# Altium integrated library N-Channel FET.IntLib: 448 symbols (part 3 of 8)
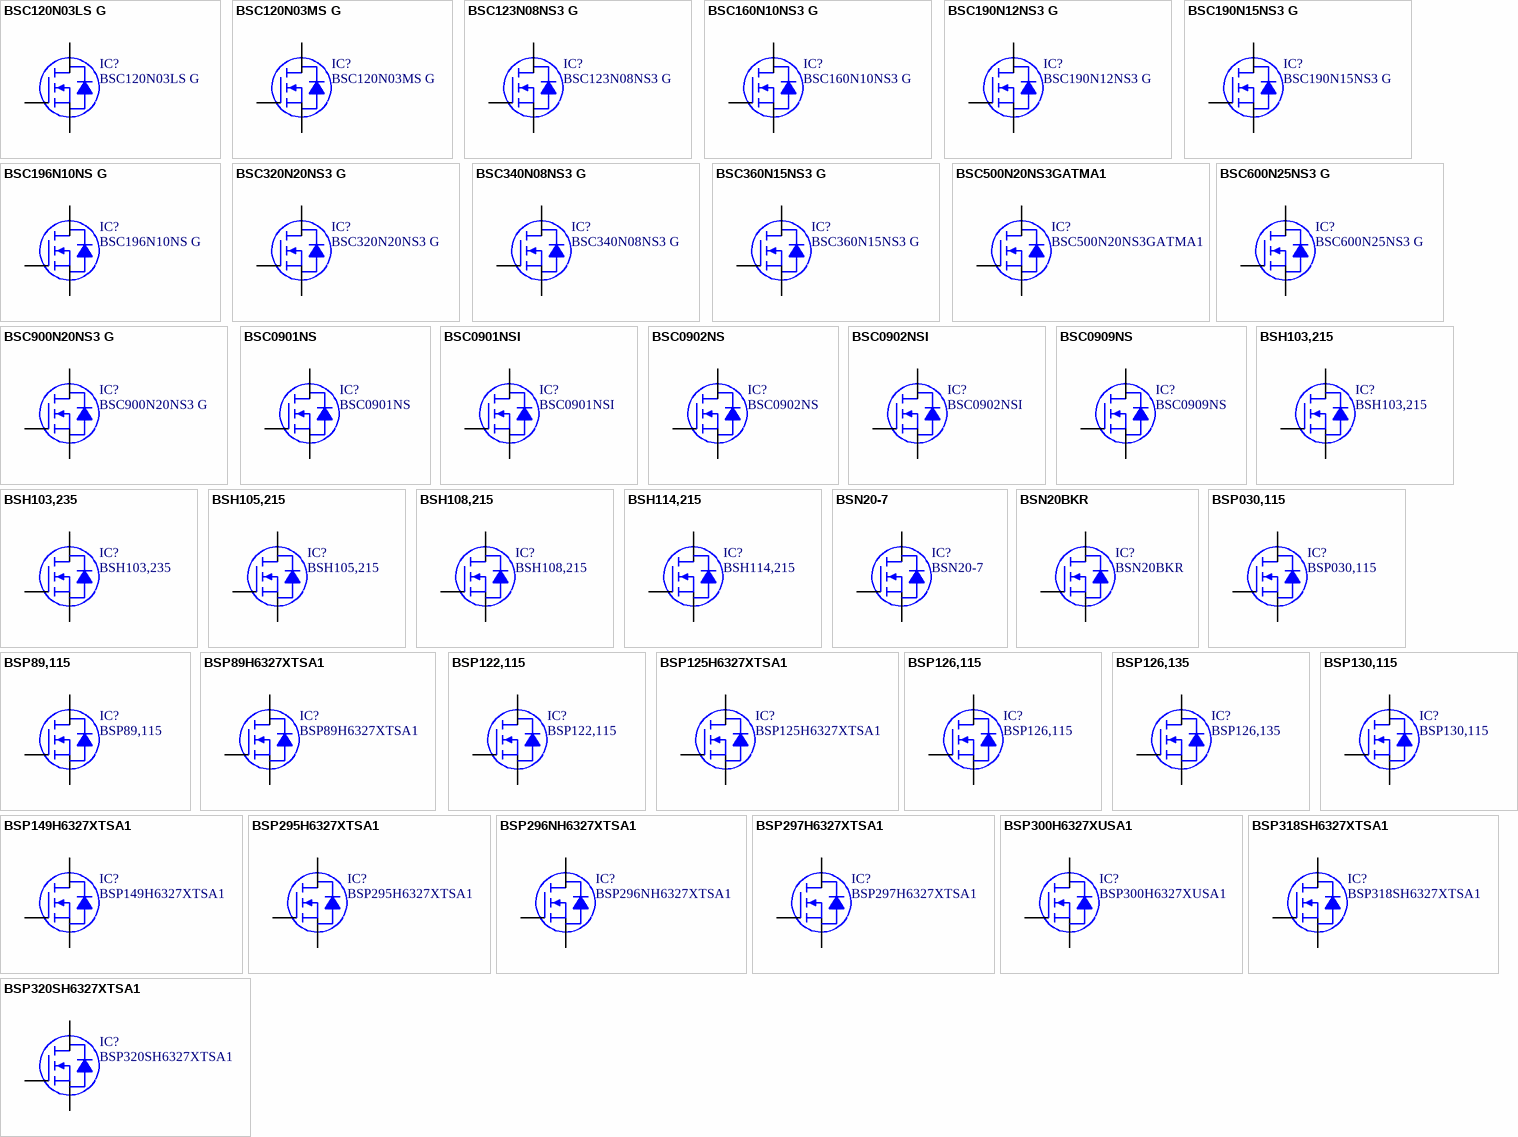
[diagram p13: symbols BSC120N03LS G to BSP320SH6327XTSA1]

## BSN20BKR
designator IC?
MOSFET N-CH 60V 0.265A SOT-23; Manufacturer: NXP USA Inc.; Rds On (Max) at Id, Vgs: 2.8 Ohm @ 200mA, 10V; Vgs(th) (Max) at Id: 20V; Gate Charge (Qg): 0.49nC @ 4.5V; Input Capacitance (Ciss) at Vds: 20.2pF @ 30V; Current Continuous Drain: 265mA (Ta); Part Number: BSN20BKR; PartId: 29598; Supplier 1: Digi-Key; Supplier Part Number 1: 568-12638-1-ND; ComponentLink1Description: Datasheet; ComponentLink1URL: http://www.nxp.com/documents/data_sheet/BSN20BK.pdf; ComponentLink2Description: Digi-Key Listing; ComponentLink2URL: https://www.digikey.com/product-detail/en/nxp-usa-inc/BSN20BKR/568-12638-1-ND/5423815; Price: 0.57; Type: N-Channel; Device Package: TO-236-3, SC-59, SOT-23-3; Drain to Source Voltage (Vdss): 60V
footprint NXP SOT-23-3 TO-236AB
pins: 1 G, 2 D, 3 S

## BSP030,115
designator IC?
MOSFET N-CH 30V 10A SOT223; Manufacturer: NXP Semiconductors; Rds On (Max) at Id, Vgs: 30 mOhm @ 5A, 10V; Vgs(th) (Max) at Id: 2.8V @ 1mA; Gate Charge (Qg): 40nC @ 10V; Input Capacitance (Ciss) at Vds: 770pF @ 24V; Power - Max: 8.3W; Current Continuous Drain: 10A (Tc); Part Number: BSP030,115; PartId: 8101; Supplier 1: Digi-Key; Supplier Part Number 1: 568-6218-2-ND; ComponentLink1Description: Datasheet; ComponentLink1URL: http://www.nxp.com/documents/data_sheet/BSP030.pdf; ComponentLink2Description: Digi-Key Listing; ComponentLink2URL: http://www.digikey.com/product-detail/en/BSP030,115/568-6218-2-ND/1155066; Price: 0.4687; Type: MOSFET N-Channel, Metal Oxide; Device Package: TO-261-4, TO-261AA; Drain to Source Voltage (Vdss): 30V; Features: Logic Level Gate
footprint NXP SOT-223
pins: 1 G, 2 D, 3 S, 4 D

## BSP89,115
designator IC?
MOSFET N-CH 240V 375MA SOT223; Manufacturer: NXP USA Inc.; Rds On (Max) at Id, Vgs: 5 Ohm @ 340mA, 10V; Vgs(th) (Max) at Id: 20V; Input Capacitance (Ciss) at Vds: 120pF @ 25V; Current Continuous Drain: 375mA (Ta); Part Number: BSP89,115; PartId: 29635; Supplier 1: Digi-Key; Supplier Part Number 1: 568-1769-1-ND; ComponentLink1Description: Datasheet; ComponentLink1URL: http://www.nxp.com/documents/data_sheet/BSP89.pdf; ComponentLink2Description: Digi-Key Listing; ComponentLink2URL: https://www.digikey.com/product-detail/en/nxp-usa-inc/BSP89,115/568-1769-1-ND/790082; Price: 0.91; Type: N-Channel; Device Package: TO-261-4, TO-261AA; Drain to Source Voltage (Vdss): 240V
footprint NXP SOT-223
pins: 1 G, 2 D, 3 S, 4 D

## BSP89H6327XTSA1
designator IC?
MOSFET N-CH 4SOT223; Manufacturer: Infineon Technologies; Rds On (Max) at Id, Vgs: 6 Ohm @ 350mA, 10V; Vgs(th) (Max) at Id: 20V; Gate Charge (Qg): 6.4nC @ 10V; Input Capacitance (Ciss) at Vds: 140pF @ 25V; Drain to Source Voltage (Vdss): 240V; Current Continuous Drain: 350mA (Ta); Part Number: BSP89H6327XTSA1; PartId: 29685; Supplier 1: Digi-Key; Supplier Part Number 1: BSP89H6327XTSA1CT-ND; ComponentLink1Description: Datasheet; ComponentLink1URL: http://www.infineon.com/dgdl/Infineon-BSP89-DS-v02_02-en.pdf?fileId=db3a30433b47825b013b4b8a07f90d55; ComponentLink2Description: Digi-Key Listing; ComponentLink2URL: https://www.digikey.com/product-detail/en/infineon-technologies/BSP89H6327XTSA1/BSP89H6327XTSA1CT-ND/5980354; Price: 0.67; Type: N-Channel; Device Package: TO-261-4, TO-261AA
footprint INFINEON SOT-223
pins: 1 G, 2 D, 3 S, 4 D

## BSP122,115
designator IC?
MOSFET N-CH 200V 0.55A SOT223; Manufacturer: NXP USA Inc.; Rds On (Max) at Id, Vgs: 2.5 Ohm @ 750mA, 10V; Vgs(th) (Max) at Id: 20V; Input Capacitance (Ciss) at Vds: 100pF @ 25V; Current Continuous Drain: 550mA (Ta); Part Number: BSP122,115; PartId: 29642; Supplier 1: Digi-Key; Supplier Part Number 1: 568-6849-1-ND; ComponentLink1Description: Datasheet; ComponentLink1URL: http://www.nxp.com/documents/data_sheet/BSP122.pdf; ComponentLink2Description: Digi-Key Listing; ComponentLink2URL: https://www.digikey.com/product-detail/en/nxp-usa-inc/BSP122,115/568-6849-1-ND/2676889; Price: 1.31; Type: N-Channel; Device Package: TO-261-4, TO-261AA; Drain to Source Voltage (Vdss): 200V
footprint NXP SOT-223
pins: 1 G, 2 D, 3 S, 4 D

## BSP125H6327XTSA1
designator IC?
MOSFET N-CH 600V 120MA SOT-223; Manufacturer: Infineon Technologies; Rds On (Max) at Id, Vgs: 45 Ohm @ 120mA, 10V; Vgs(th) (Max) at Id: 20V; Gate Charge (Qg): 6.6nC @ 10V; Input Capacitance (Ciss) at Vds: 150pF @ 25V; Current Continuous Drain: 120mA (Ta); Part Number: BSP125H6327XTSA1; PartId: 29679; Supplier 1: Digi-Key; Supplier Part Number 1: BSP125H6327XTSA1CT-ND; ComponentLink1Description: Datasheet; ComponentLink1URL: http://www.infineon.com/dgdl/Infineon-BSP125-DS-v02_02-en.pdf?fileId=db3a30433b47825b013b50cae9702806; ComponentLink2Description: Digi-Key Listing; ComponentLink2URL: https://www.digikey.com/product-detail/en/infineon-technologies/BSP125H6327XTSA1/BSP125H6327XTSA1CT-ND/5409980; Price: 0.89; Type: N-Channel; Device Package: TO-261-4, TO-261AA; Drain to Source Voltage (Vdss): 600V
footprint INFINEON SOT-223
pins: 1 G, 2 D, 3 S, 4 D

## BSP126,115
designator IC?
MOSFET N-CH 250V 375MA SOT223; Manufacturer: NXP USA Inc.; Rds On (Max) at Id, Vgs: 5 Ohm @ 300mA, 10V; Vgs(th) (Max) at Id: 20V; Input Capacitance (Ciss) at Vds: 120pF @ 25V; Current Continuous Drain: 375mA (Ta); Part Number: BSP126,115; PartId: 29638; Supplier 1: Digi-Key; Supplier Part Number 1: 568-6219-1-ND; ComponentLink1Description: Datasheet; ComponentLink1URL: http://www.nxp.com/documents/data_sheet/BSP126.pdf; ComponentLink2Description: Digi-Key Listing; ComponentLink2URL: https://www.digikey.com/product-detail/en/nxp-usa-inc/BSP126,115/568-6219-1-ND/2531506; Price: 1.31; Type: N-Channel; Device Package: TO-261-4, TO-261AA; Drain to Source Voltage (Vdss): 250V
footprint NXP SOT-223
pins: 1 G, 2 D, 3 S, 4 D

## BSP126,135
designator IC?
MOSFET N-CH 250V 375MA SOT223; Manufacturer: NXP USA Inc.; Rds On (Max) at Id, Vgs: 5 Ohm @ 300mA, 10V; Vgs(th) (Max) at Id: 20V; Input Capacitance (Ciss) at Vds: 120pF @ 25V; Current Continuous Drain: 375mA (Ta); Part Number: BSP126,135; PartId: 29639; Supplier 1: Digi-Key; Supplier Part Number 1: 568-6957-1-ND; ComponentLink1Description: Datasheet; ComponentLink1URL: http://www.nxp.com/documents/data_sheet/BSP126.pdf; ComponentLink2Description: Digi-Key Listing; ComponentLink2URL: https://www.digikey.com/product-detail/en/nxp-usa-inc/BSP126,135/568-6957-1-ND/2697757; Price: 1.31; Type: N-Channel; Device Package: TO-261-4, TO-261AA; Drain to Source Voltage (Vdss): 250V
footprint NXP SOT-223
pins: 1 G, 2 D, 3 S, 4 D

## BSP130,115
designator IC?
MOSFET N-CH 300V 350MA SC73; Manufacturer: NXP USA Inc.; Rds On (Max) at Id, Vgs: 6 Ohm @ 250mA, 10V; Vgs(th) (Max) at Id: 20V; Input Capacitance (Ciss) at Vds: 120pF @ 25V; Current Continuous Drain: 350mA (Ta); Part Number: BSP130,115; PartId: 29637; Supplier 1: Digi-Key; Supplier Part Number 1: 568-6220-1-ND; ComponentLink1Description: Datasheet; ComponentLink1URL: http://www.nxp.com/documents/data_sheet/BSP130.pdf; ComponentLink2Description: Digi-Key Listing; ComponentLink2URL: https://www.digikey.com/product-detail/en/nxp-usa-inc/BSP130,115/568-6220-1-ND/2531507; Price: 1.41; Type: N-Channel; Device Package: TO-261-4, TO-261AA; Drain to Source Voltage (Vdss): 300V
footprint NXP SOT-223
pins: 1 G, 2 D, 3 S, 4 D

## BSP149H6327XTSA1
designator IC?
MOSFET N-CH 200V 660MA SOT-223; Manufacturer: Infineon Technologies; Rds On (Max) at Id, Vgs: 1.8 Ohm @ 660mA, 10V; Vgs(th) (Max) at Id: 20V; Gate Charge (Qg): 14nC @ 5V; Input Capacitance (Ciss) at Vds: 430pF @ 25V; Current Continuous Drain: 660mA (Ta); Part Number: BSP149H6327XTSA1; PartId: 29675; Supplier 1: Digi-Key; Supplier Part Number 1: BSP149H6327XTSA1CT-ND; ComponentLink1Description: Datasheet; ComponentLink1URL: http://www.infineon.com/dgdl/Infineon-BSP149-DS-v02_01-en.pdf?fileId=db3a30433c1a8752013c1fcbb815397c; ComponentLink2Description: Digi-Key Listing; ComponentLink2URL: https://www.digikey.com/product-detail/en/infineon-technologies/BSP149H6327XTSA1/BSP149H6327XTSA1CT-ND/5409983; Price: 1.22; Type: N-Channel; Device Package: TO-261-4, TO-261AA; Drain to Source Voltage (Vdss): 200V; Features: Depletion Mode
footprint INFINEON SOT-223
pins: 1 G, 2 D, 3 S, 4 D

## BSP295H6327XTSA1
designator IC?
MOSFET N-CH 60V 1.8A SOT223; Manufacturer: Infineon Technologies; Rds On (Max) at Id, Vgs: 300 mOhm @ 1.8A, 10V; Vgs(th) (Max) at Id: 20V; Gate Charge (Qg): 17nC @ 10V; Input Capacitance (Ciss) at Vds: 368pF @ 25V; Current Continuous Drain: 1.8A (Ta); Part Number: BSP295H6327XTSA1; PartId: 29678; Supplier 1: Digi-Key; Supplier Part Number 1: BSP295H6327XTSA1CT-ND; ComponentLink1Description: Datasheet; ComponentLink1URL: http://www.infineon.com/dgdl/Infineon-BSP295-DS-v02_03-en.pdf?fileId=db3a30433b47825b013b5fc5eed1573f; ComponentLink2Description: Digi-Key Listing; ComponentLink2URL: https://www.digikey.com/product-detail/en/infineon-technologies/BSP295H6327XTSA1/BSP295H6327XTSA1CT-ND/5409987; Price: 0.88; Type: N-Channel; Device Package: TO-261-4, TO-261AA; Drain to Source Voltage (Vdss): 60V
footprint INFINEON SOT-223
pins: 1 G, 2 D, 3 S, 4 D

## BSP296NH6327XTSA1
designator IC?
MOSFET N-CH 100V 1.2A SOT-223; Manufacturer: Infineon Technologies; Rds On (Max) at Id, Vgs: 600 mOhm @ 1.2A, 10V; Vgs(th) (Max) at Id: 20V; Gate Charge (Qg): 6.7nC @ 10V; Input Capacitance (Ciss) at Vds: 152.7pF @ 25V; Current Continuous Drain: 1.2A (Ta); Part Number: BSP296NH6327XTSA1; PartId: 29680; Supplier 1: Digi-Key; Supplier Part Number 1: BSP296NH6327XTSA1CT-ND; ComponentLink1Description: Datasheet; ComponentLink1URL: http://www.infineon.com/dgdl/BSP296N_rev2+0.pdf?folderId=db3a3043156fd573011622e10b5c1f67&fileId=db3a30433dd58def013dd5af675d001f; ComponentLink2Description: Digi-Key Listing; ComponentLink2URL: https://www.digikey.com/product-detail/en/infineon-technologies/BSP296NH6327XTSA1/BSP296NH6327XTSA1CT-ND/5413605; Price: 0.84; Type: N-Channel; Device Package: TO-261-4, TO-261AA; Drain to Source Voltage (Vdss): 100V
footprint INFINEON SOT-223
pins: 1 G, 2 D, 3 S, 4 D

## BSP297H6327XTSA1
designator IC?
MOSFET N-CH 200V 660MA SOT-223; Manufacturer: Infineon Technologies; Rds On (Max) at Id, Vgs: 1.8 Ohm @ 660mA, 10V; Vgs(th) (Max) at Id: 20V; Gate Charge (Qg): 16.1nC @ 10V; Input Capacitance (Ciss) at Vds: 357pF @ 25V; Current Continuous Drain: 660mA (Ta); Part Number: BSP297H6327XTSA1; PartId: 29690; Supplier 1: Digi-Key; Supplier Part Number 1: BSP297H6327XTSA1CT-ND; ComponentLink1Description: Datasheet; ComponentLink1URL: http://www.infineon.com/dgdl/Infineon-BSP297-DS-v02_02-en.pdf?fileId=db3a30433b47825b013b51250a8528c2; ComponentLink2Description: Digi-Key Listing; ComponentLink2URL: https://www.digikey.com/product-detail/en/infineon-technologies/BSP297H6327XTSA1/BSP297H6327XTSA1CT-ND/5409988; Price: 0.88; Type: N-Channel; Device Package: TO-261-4, TO-261AA; Drain to Source Voltage (Vdss): 200V
footprint INFINEON SOT-223
pins: 1 G, 2 D, 3 S, 4 D

## BSP300H6327XUSA1
designator IC?
MOSFET N-CH 800V 190MA SOT-223; Manufacturer: Infineon Technologies; Rds On (Max) at Id, Vgs: 20 Ohm @ 190mA, 10V; Vgs(th) (Max) at Id: 20V; Input Capacitance (Ciss) at Vds: 230pF @ 25V; Current Continuous Drain: 190mA (Ta); Part Number: BSP300H6327XUSA1; PartId: 29693; Supplier 1: Digi-Key; Supplier Part Number 1: BSP300H6327XUSA1CT-ND; ComponentLink1Description: Datasheet; ComponentLink1URL: http://www.infineon.com/dgdl/Infineon-BSP300-DS-v02_02-en.pdf?fileId=db3a30433b47825b013b4c980bd0110d; ComponentLink2Description: Digi-Key Listing; ComponentLink2URL: https://www.digikey.com/product-detail/en/infineon-technologies/BSP300H6327XUSA1/BSP300H6327XUSA1CT-ND/5409990; Price: 1.23; Type: N-Channel; Device Package: TO-261-4, TO-261AA; Drain to Source Voltage (Vdss): 800V
footprint INFINEON SOT-223
pins: 1 G, 2 D, 3 S, 4 D

## BSP318SH6327XTSA1
designator IC?
MOSFET N-CH 60V 2.6A; Manufacturer: Infineon Technologies; Rds On (Max) at Id, Vgs: 90 mOhm @ 2.6A, 10V; Vgs(th) (Max) at Id: 20V; Gate Charge (Qg): 20nC @ 10V; Input Capacitance (Ciss) at Vds: 380pF @ 25V; Current Continuous Drain: 2.6A (Tj); Part Number: BSP318SH6327XTSA1; PartId: 29689; Supplier 1: Digi-Key; Supplier Part Number 1: BSP318SH6327XTSA1CT-ND; ComponentLink1Description: Datasheet; ComponentLink1URL: //media.digikey.com/pdf/Data%20Sheets/Infineon%20PDFs/BSP318S.pdf; ComponentLink2Description: Digi-Key Listing; ComponentLink2URL: https://www.digikey.com/product-detail/en/infineon-technologies/BSP318SH6327XTSA1/BSP318SH6327XTSA1CT-ND/6133624; Price: 0.84; Type: N-Channel; Device Package: TO-261-4, TO-261AA; Drain to Source Voltage (Vdss): 60V
footprint INFINEON SOT-223
pins: 1 G, 2 D, 3 S, 4 D

## BSP320SH6327XTSA1
designator IC?
MOSFET N-CH 60V 2.9A SOT223; Manufacturer: Infineon Technologies; Rds On (Max) at Id, Vgs: 120 mOhm @ 2.9A, 10V; Vgs(th) (Max) at Id: 20V; Gate Charge (Qg): 12nC @ 10V; Input Capacitance (Ciss) at Vds: 340pF @ 25V; Current Continuous Drain: 2.9A (Tj); Part Number: BSP320SH6327XTSA1; PartId: 29686; Supplier 1: Digi-Key; Supplier Part Number 1: BSP320SH6327XTSA1CT-ND; ComponentLink1Description: Datasheet; ComponentLink1URL: http://www.infineon.com/dgdl/Infineon-BSP320S-DS-v02_05-en.pdf?fileId=db3a30433b47825b013b515cf1f42949; ComponentLink2Description: Digi-Key Listing; ComponentLink2URL: https://www.digikey.com/product-detail/en/infineon-technologies/BSP320SH6327XTSA1/BSP320SH6327XTSA1CT-ND/6134221; Price: 0.78; Type: N-Channel; Device Package: TO-261-4, TO-261AA; Drain to Source Voltage (Vdss): 60V
footprint INFINEON SOT-223
pins: 1 G, 2 D, 3 S, 4 D

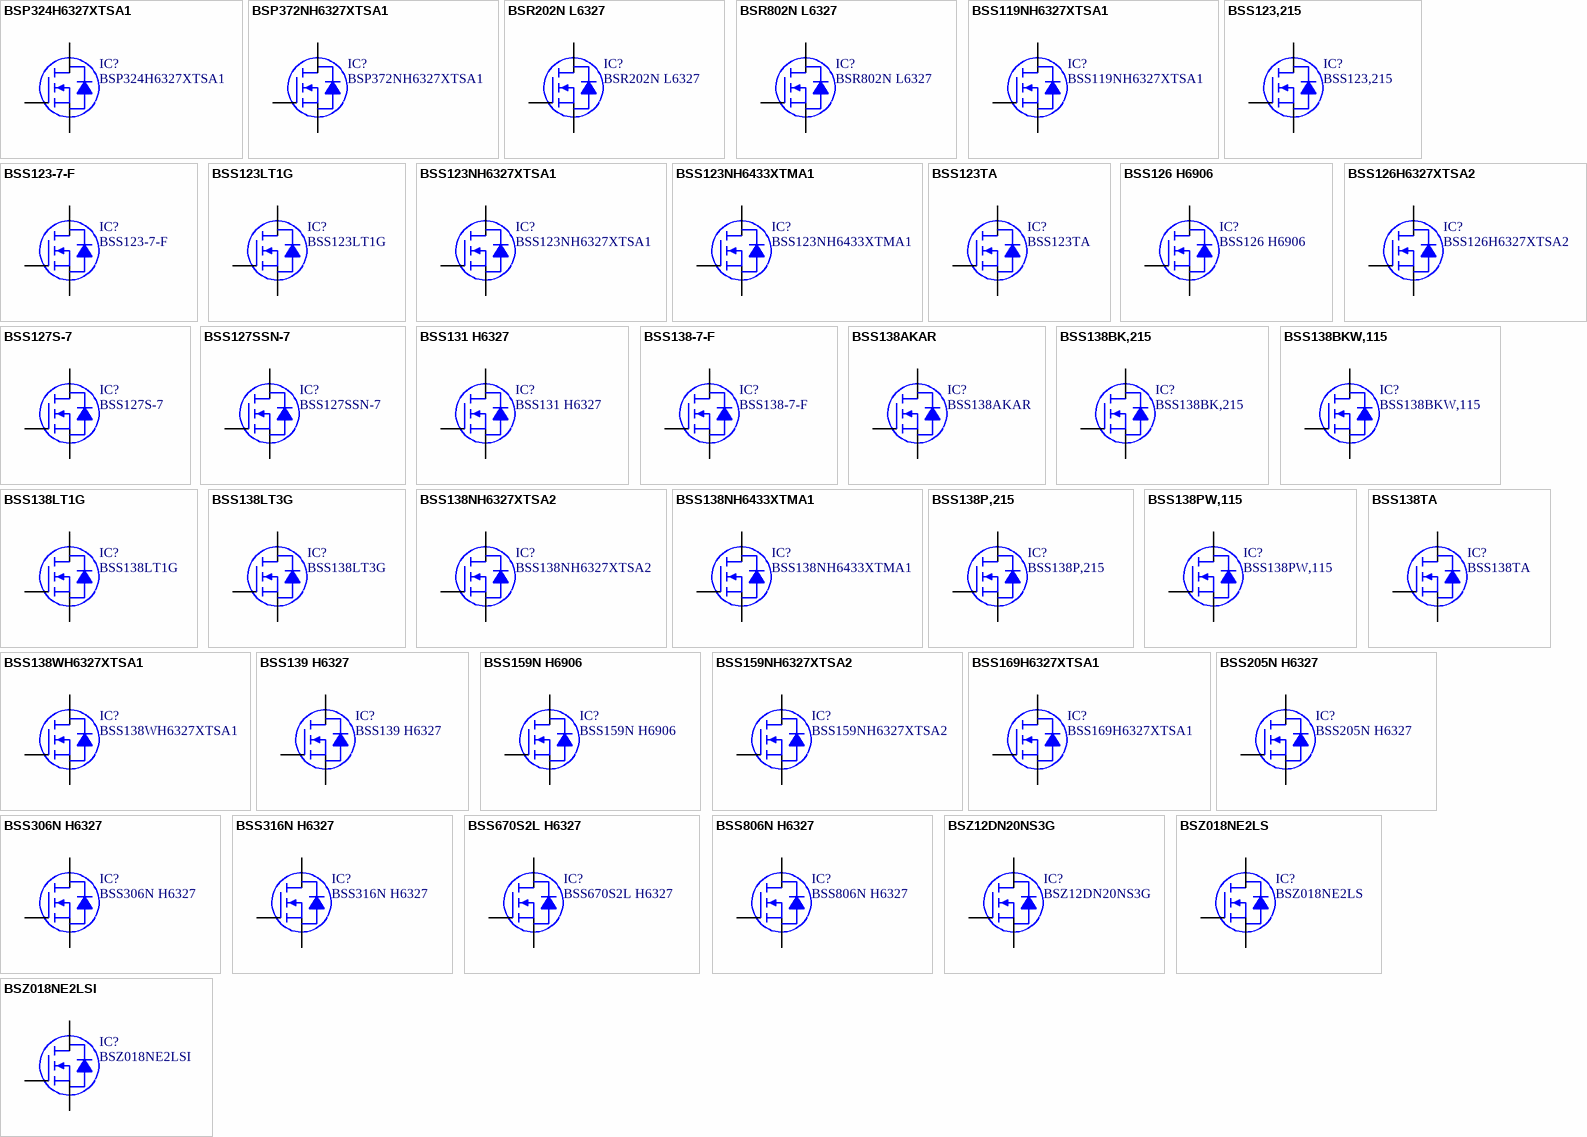
[diagram p3: symbols BSP324H6327XTSA1 to BSZ018NE2LSI]

## BSP324H6327XTSA1
designator IC?
MOSFET N-CH 400V 170MA SOT-223; Manufacturer: Infineon Technologies; Rds On (Max) at Id, Vgs: 25 Ohm @ 170mA, 10V; Vgs(th) (Max) at Id: 20V; Gate Charge (Qg): 5.9nC @ 10V; Input Capacitance (Ciss) at Vds: 154pF @ 25V; Current Continuous Drain: 170mA (Ta); Part Number: BSP324H6327XTSA1; PartId: 29691; Supplier 1: Digi-Key; Supplier Part Number 1: BSP324H6327XTSA1CT-ND; ComponentLink1Description: Datasheet; ComponentLink1URL: http://www.infineon.com/dgdl/Infineon-BSP324-DS-v02_02-en.pdf?fileId=db3a30433b47825b013b4c38c51e0fe9; ComponentLink2Description: Digi-Key Listing; ComponentLink2URL: https://www.digikey.com/product-detail/en/infineon-technologies/BSP324H6327XTSA1/BSP324H6327XTSA1CT-ND/5409995; Price: 0.89; Type: N-Channel; Device Package: TO-261-4, TO-261AA; Drain to Source Voltage (Vdss): 400V
footprint INFINEON SOT-223
pins: 1 G, 2 D, 3 S, 4 D

## BSP372NH6327XTSA1
designator IC?
MOSFET N-CH 100V 1.7A SOT-223; Manufacturer: Infineon Technologies; Rds On (Max) at Id, Vgs: 230 mOhm @ 1.8A, 10V; Vgs(th) (Max) at Id: 20V; Gate Charge (Qg): 14.3nC @ 10V; Input Capacitance (Ciss) at Vds: 329pF @ 25V; Current Continuous Drain: 1.8A (Ta); Part Number: BSP372NH6327XTSA1; PartId: 29692; Supplier 1: Digi-Key; Supplier Part Number 1: BSP372NH6327XTSA1CT-ND; ComponentLink1Description: Datasheet; ComponentLink1URL: http://www.infineon.com/dgdl/BSP372N_rev2+0.pdf?folderId=db3a3043156fd573011622e10b5c1f67&fileId=db3a30433dd58def013dd8e68ae413f6; ComponentLink2Description: Digi-Key Listing; ComponentLink2URL: https://www.digikey.com/product-detail/en/infineon-technologies/BSP372NH6327XTSA1/BSP372NH6327XTSA1CT-ND/5980351; Price: 0.95; Type: N-Channel; Device Package: TO-261-4, TO-261AA; Drain to Source Voltage (Vdss): 100V
footprint INFINEON SOT-223
pins: 1 G, 2 D, 3 S, 4 D

## BSR202N L6327
designator IC?
MOSFET N-CH 20V 3.8A SC-59; Manufacturer: Infineon Technologies; Rds On (Max) at Id, Vgs: 21 mOhm @ 3.8A, 4.5V; Vgs(th) (Max) at Id: 12V; Gate Charge (Qg): 8.8nC @ 4.5V; Input Capacitance (Ciss) at Vds: 1147pF @ 10V; Current Continuous Drain: 3.8A (Ta); Part Number: BSR202N L6327; PartId: 29487; Supplier 1: Digi-Key; Supplier Part Number 1: BSR202N L6327CT-ND; ComponentLink1Description: Datasheet; ComponentLink1URL: http://www.infineon.com/dgdl/BSR202N_Rev1.06.pdf?folderId=db3a3043156fd573011622e10b5c1f67&fileId=db3a3043156fd573011622e5576e1f72; ComponentLink2Description: Digi-Key Listing; ComponentLink2URL: https://www.digikey.com/product-detail/en/infineon-technologies/BSR202N-L6327/BSR202N-L6327CT-ND/2231062; Price: 0.7; Type: N-Channel; Device Package: TO-236-3, SC-59, SOT-23-3; Drain to Source Voltage (Vdss): 20V
footprint INFINEON SOT-23-3
pins: 1 G, 2 D, 3 S

## BSR802N L6327
designator IC?
MOSFET N-CH 20V 3.7A SC-59; Manufacturer: Infineon Technologies; Rds On (Max) at Id, Vgs: 23 mOhm @ 3.7A, 2.5V; Vgs(th) (Max) at Id: 8V; Gate Charge (Qg): 4.7nC @ 2.5V; Input Capacitance (Ciss) at Vds: 1447pF @ 10V; Current Continuous Drain: 3.7A (Ta); Part Number: BSR802N L6327; PartId: 29467; Supplier 1: Digi-Key; Supplier Part Number 1: BSR802N L6327INCT-ND; ComponentLink1Description: Datasheet; ComponentLink1URL: http://www.infineon.com/dgdl/BSR802N_Rev2.1.pdf?folderId=db3a3043156fd573011622e10b5c1f67&fileId=db3a30431b0626df011b129302297bc1; ComponentLink2Description: Digi-Key Listing; ComponentLink2URL: https://www.digikey.com/product-detail/en/infineon-technologies/BSR802N-L6327/BSR802N-L6327INCT-ND/2268934; Price: 0.72; Type: N-Channel; Device Package: TO-236-3, SC-59, SOT-23-3; Drain to Source Voltage (Vdss): 20V
footprint INFINEON SOT-23-3
pins: 1 G, 2 D, 3 S

## BSS119NH6327XTSA1
designator IC?
MOSFET N-CH 100V 0.19A SOT-23; Manufacturer: Infineon Technologies; Rds On (Max) at Id, Vgs: 6 Ohm @ 190mA, 10V; Vgs(th) (Max) at Id: 20V; Gate Charge (Qg): 0.6nC @ 10V; Input Capacitance (Ciss) at Vds: 20.9pF @ 25V; Current Continuous Drain: 190mA (Ta); Part Number: BSS119NH6327XTSA1; PartId: 29479; Supplier 1: Digi-Key; Supplier Part Number 1: BSS119NH6327XTSA1CT-ND; ComponentLink1Description: Datasheet; ComponentLink1URL: http://www.infineon.com/dgdl/Infineon-BSS119N-DS-v02_01-en.pdf?fileId=db3a304335f1f4b6013639b6532a164a; ComponentLink2Description: Digi-Key Listing; ComponentLink2URL: https://www.digikey.com/product-detail/en/infineon-technologies/BSS119NH6327XTSA1/BSS119NH6327XTSA1CT-ND/5409997; Price: 0.57; Type: N-Channel; Device Package: TO-236-3, SC-59, SOT-23-3; Drain to Source Voltage (Vdss): 100V
footprint INFINEON SOT-23-3
pins: 1 G, 2 D, 3 S

## BSS123,215
designator IC?
MOSFET N-CH 100V 150MA SOT-23; Manufacturer: NXP USA Inc.; Rds On (Max) at Id, Vgs: 6 Ohm @ 120mA, 10V; Vgs(th) (Max) at Id: 20V; Input Capacitance (Ciss) at Vds: 40pF @ 25V; Current Continuous Drain: 150mA (Ta); Part Number: BSS123,215; PartId: 29596; Supplier 1: Digi-Key; Supplier Part Number 1: 568-4873-1-ND; ComponentLink1Description: Datasheet; ComponentLink1URL: http://www.nxp.com/documents/data_sheet/BSS123.pdf; ComponentLink2Description: Digi-Key Listing; ComponentLink2URL: https://www.digikey.com/product-detail/en/nxp-usa-inc/BSS123,215/568-4873-1-ND/2122202; Price: 0.48; Type: N-Channel; Device Package: TO-236-3, SC-59, SOT-23-3; Drain to Source Voltage (Vdss): 100V
footprint NXP SOT-23-3 TO-236AB
pins: 1 G, 2 D, 3 S

## BSS123-7-F
designator IC?
MOSFET N-CH 100V 170MA SOT23-3; Manufacturer: Diodes Incorporated; Rds On (Max) at Id, Vgs: 6 Ohm @ 170mA, 10V; Vgs(th) (Max) at Id: 20V; Input Capacitance (Ciss) at Vds: 60pF @ 25V; Current Continuous Drain: 170mA (Ta); Part Number: BSS123-7-F; PartId: 29518; Supplier 1: Digi-Key; Supplier Part Number 1: BSS123-FDICT-ND; ComponentLink1Description: Datasheet; ComponentLink1URL: http://www.diodes.com/_files/datasheets/ds30366.pdf; ComponentLink2Description: Digi-Key Listing; ComponentLink2URL: https://www.digikey.com/product-detail/en/diodes-incorporated/BSS123-7-F/BSS123-FDICT-ND/717842; Price: 0.5; Type: N-Channel; Device Package: TO-236-3, SC-59, SOT-23-3; Drain to Source Voltage (Vdss): 100V
footprint DIODES SOT-23-3
pins: 1 G, 2 D, 3 S

## BSS123LT1G
designator IC?
MOSFET N-CH 100V 170MA SOT-23; Manufacturer: ON Semiconductor; Rds On (Max) at Id, Vgs: 6 Ohm @ 100mA, 10V; Vgs(th) (Max) at Id: 20V; Input Capacitance (Ciss) at Vds: 20pF @ 25V; Current Continuous Drain: 170mA (Ta); Part Number: BSS123LT1G; PartId: 29632; Supplier 1: Digi-Key; Supplier Part Number 1: BSS123LT1GOSCT-ND; ComponentLink1Description: Datasheet; ComponentLink1URL: http://www.onsemi.com/pub_link/Collateral/BSS123LT1-D.PDF; ComponentLink2Description: Digi-Key Listing; ComponentLink2URL: https://www.digikey.com/product-detail/en/on-semiconductor/BSS123LT1G/BSS123LT1GOSCT-ND/917857; Price: 0.37; Type: N-Channel; Device Package: TO-236-3, SC-59, SOT-23-3; Drain to Source Voltage (Vdss): 100V
footprint ON SEMI SOT-23-3
pins: 1 G, 2 D, 3 S

## BSS123NH6327XTSA1
designator IC?
MOSFET N-CH 100V 0.19A SOT-23; Manufacturer: Infineon Technologies; Rds On (Max) at Id, Vgs: 6 Ohm @ 190mA, 10V; Vgs(th) (Max) at Id: 20V; Gate Charge (Qg): 0.9nC @ 10V; Input Capacitance (Ciss) at Vds: 20.9pF @ 25V; Current Continuous Drain: 190mA (Ta); Part Number: BSS123NH6327XTSA1; PartId: 29473; Supplier 1: Digi-Key; Supplier Part Number 1: BSS123NH6327XTSA1CT-ND; ComponentLink1Description: Datasheet; ComponentLink1URL: http://www.infineon.com/dgdl/Infineon-BSS123N-DS-v02_03-en.pdf?fileId=db3a304335f1f4b6013639adfaaa1631; ComponentLink2Description: Digi-Key Listing; ComponentLink2URL: https://www.digikey.com/product-detail/en/infineon-technologies/BSS123NH6327XTSA1/BSS123NH6327XTSA1CT-ND/5409998; Price: 0.38; Type: N-Channel; Device Package: TO-236-3, SC-59, SOT-23-3; Drain to Source Voltage (Vdss): 100V
footprint INFINEON SOT-23-3
pins: 1 G, 2 D, 3 S

## BSS123NH6433XTMA1
designator IC?
MOSFET N-CH 100V 0.19A SOT-23; Manufacturer: Infineon Technologies; Rds On (Max) at Id, Vgs: 6 Ohm @ 190mA, 10V; Vgs(th) (Max) at Id: 20V; Gate Charge (Qg): 0.9nC @ 10V; Input Capacitance (Ciss) at Vds: 20.9pF @ 25V; Current Continuous Drain: 190mA (Ta); Part Number: BSS123NH6433XTMA1; PartId: 29471; Supplier 1: Digi-Key; Supplier Part Number 1: BSS123NH6433XTMA1CT-ND; ComponentLink1Description: Datasheet; ComponentLink1URL: http://www.infineon.com/dgdl/Infineon-BSS123N-DS-v02_03-en.pdf?fileId=db3a304335f1f4b6013639adfaaa1631; ComponentLink2Description: Digi-Key Listing; ComponentLink2URL: https://www.digikey.com/product-detail/en/infineon-technologies/BSS123NH6433XTMA1/BSS123NH6433XTMA1CT-ND/5409999; Price: 0.38; Type: N-Channel; Device Package: TO-236-3, SC-59, SOT-23-3; Drain to Source Voltage (Vdss): 100V
footprint INFINEON SOT-23-3
pins: 1 G, 2 D, 3 S

## BSS123TA
designator IC?
MOSFET N-CH 100V 170MA SOT23-3; Manufacturer: Diodes Incorporated; Rds On (Max) at Id, Vgs: 6 Ohm @ 100mA, 10V; Vgs(th) (Max) at Id: 20V; Input Capacitance (Ciss) at Vds: 20pF @ 25V; Current Continuous Drain: 170mA (Ta); Part Number: BSS123TA; PartId: 29531; Supplier 1: Digi-Key; Supplier Part Number 1: BSS123CT-ND; ComponentLink1Description: Datasheet; ComponentLink1URL: http://www.diodes.com/_files/datasheets/BSS123.pdf; ComponentLink2Description: Digi-Key Listing; ComponentLink2URL: https://www.digikey.com/product-detail/en/diodes-incorporated/BSS123TA/BSS123CT-ND/152321; Price: 0.67; Type: N-Channel; Device Package: TO-236-3, SC-59, SOT-23-3; Drain to Source Voltage (Vdss): 100V
footprint DIODES SOT-23-3
pins: 1 G, 2 D, 3 S

## BSS126 H6906
designator IC?
MOSFET N-CH 600V 0.021A SOT23; Manufacturer: Infineon Technologies; Rds On (Max) at Id, Vgs: 500 Ohm @ 16mA, 10V; Vgs(th) (Max) at Id: 20V; Gate Charge (Qg): 2.1nC @ 5V; Input Capacitance (Ciss) at Vds: 28pF @ 25V; Current Continuous Drain: 21mA (Ta); Part Number: BSS126 H6906; PartId: 29489; Supplier 1: Digi-Key; Supplier Part Number 1: BSS126 H6906CT-ND; ComponentLink1Description: Datasheet; ComponentLink1URL: http://www.infineon.com/dgdl/BSS126_Rev2.0_.pdf?folderId=db3a3043156fd573011622e10b5c1f67&fileId=db3a304330f6860601310483af163eba; ComponentLink2Description: Digi-Key Listing; ComponentLink2URL: https://www.digikey.com/product-detail/en/infineon-technologies/BSS126-H6906/BSS126-H6906CT-ND/3196639; Price: 0.89; Type: N-Channel; Device Package: TO-236-3, SC-59, SOT-23-3; Drain to Source Voltage (Vdss): 600V; Features: Depletion Mode
footprint INFINEON SOT-23-3
pins: 1 G, 2 D, 3 S

## BSS126H6327XTSA2
designator IC?
MOSFET N-CH 600V 0.021A SOT-23; Manufacturer: Infineon Technologies; Rds On (Max) at Id, Vgs: 500 Ohm @ 16mA, 10V; Vgs(th) (Max) at Id: 20V; Gate Charge (Qg): 2.1nC @ 5V; Input Capacitance (Ciss) at Vds: 28pF @ 25V; Current Continuous Drain: 21mA (Ta); Part Number: BSS126H6327XTSA2; PartId: 29486; Supplier 1: Digi-Key; Supplier Part Number 1: BSS126H6327XTSA2CT-ND; ComponentLink1Description: Datasheet; ComponentLink1URL: http://www.infineon.com/dgdl/Infineon-BSS126-DS-v02_01-en.pdf?fileId=db3a304330f6860601310483af163eba; ComponentLink2Description: Digi-Key Listing; ComponentLink2URL: https://www.digikey.com/product-detail/en/infineon-technologies/BSS126H6327XTSA2/BSS126H6327XTSA2CT-ND/5413726; Price: 0.54; Type: N-Channel; Device Package: TO-236-3, SC-59, SOT-23-3; Drain to Source Voltage (Vdss): 600V; Features: Depletion Mode
footprint INFINEON SOT-23-3
pins: 1 G, 2 D, 3 S

## BSS127S-7
designator IC?
MOSFET N-CH 600V 0.05A SOT23; Manufacturer: Diodes Incorporated; Rds On (Max) at Id, Vgs: 160 Ohm @ 16mA, 10V; Vgs(th) (Max) at Id: 20V; Gate Charge (Qg): 1.08nC @ 10V; Input Capacitance (Ciss) at Vds: 21.8pF @ 25V; Current Continuous Drain: 50mA (Ta); Part Number: BSS127S-7; PartId: 29500; Supplier 1: Digi-Key; Supplier Part Number 1: BSS127S-7DICT-ND; ComponentLink1Description: Datasheet; ComponentLink1URL: http://www.diodes.com/_files/datasheets/BSS127.pdf; ComponentLink2Description: Digi-Key Listing; ComponentLink2URL: https://www.digikey.com/product-detail/en/diodes-incorporated/BSS127S-7/BSS127S-7DICT-ND/3451564; Price: 0.62; Type: N-Channel; Device Package: TO-236-3, SC-59, SOT-23-3; Drain to Source Voltage (Vdss): 600V
footprint DIODES SOT-23-3
pins: 1 G, 2 D, 3 S

## BSS127SSN-7
designator IC?
MOSFET N-CH 600V 50MA SC59; Manufacturer: Diodes Incorporated; Rds On (Max) at Id, Vgs: 160 Ohm @ 16mA, 10V; Vgs(th) (Max) at Id: 20V; Gate Charge (Qg): 1.08nC @ 10V; Input Capacitance (Ciss) at Vds: 21.8pF @ 25V; Current Continuous Drain: 50mA (Ta); Part Number: BSS127SSN-7; PartId: 29529; Supplier 1: Digi-Key; Supplier Part Number 1: BSS127SSN-7DICT-ND; ComponentLink1Description: Datasheet; ComponentLink1URL: http://www.diodes.com/_files/datasheets/BSS127.pdf; ComponentLink2Description: Digi-Key Listing; ComponentLink2URL: https://www.digikey.com/product-detail/en/diodes-incorporated/BSS127SSN-7/BSS127SSN-7DICT-ND/2792463; Price: 0.66; Type: N-Channel; Device Package: TO-236-3, SC-59, SOT-23-3; Drain to Source Voltage (Vdss): 600V
footprint DIODES SOT-23-3
pins: 1 G, 2 D, 3 S

## BSS131 H6327
designator IC?
MOSFET N-CH 240V 0.11A SOT23; Manufacturer: Infineon Technologies; Rds On (Max) at Id, Vgs: 14 Ohm @ 100mA, 10V; Vgs(th) (Max) at Id: 20V; Gate Charge (Qg): 3.1nC @ 10V; Input Capacitance (Ciss) at Vds: 77pF @ 25V; Current Continuous Drain: 110mA (Ta); Part Number: BSS131 H6327; PartId: 29476; Supplier 1: Digi-Key; Supplier Part Number 1: BSS131 H6327CT-ND; ComponentLink1Description: Datasheet; ComponentLink1URL: http://www.infineon.com/dgdl/BSS131_V2.5+G.pdf?folderId=db3a3043156fd573011622e10b5c1f67&fileId=db3a304330f68606013104bf65993eeb; ComponentLink2Description: Digi-Key Listing; ComponentLink2URL: https://www.digikey.com/product-detail/en/infineon-technologies/BSS131-H6327/BSS131-H6327CT-ND/3196640; Price: 0.53; Type: N-Channel; Device Package: TO-236-3, SC-59, SOT-23-3; Drain to Source Voltage (Vdss): 240V
footprint INFINEON SOT-23-3
pins: 1 G, 2 D, 3 S

## BSS138-7-F
designator IC?
MOSFET N-CH 50V 200MA SOT23-3; Manufacturer: Diodes Incorporated; Rds On (Max) at Id, Vgs: 3.5 Ohm @ 220mA, 10V; Vgs(th) (Max) at Id: 20V; Input Capacitance (Ciss) at Vds: 50pF @ 10V; Current Continuous Drain: 200mA (Ta); Part Number: BSS138-7-F; PartId: 29492; Supplier 1: Digi-Key; Supplier Part Number 1: BSS138-FDICT-ND; ComponentLink1Description: Datasheet; ComponentLink1URL: http://www.diodes.com/_files/datasheets/ds30144.pdf; ComponentLink2Description: Digi-Key Listing; ComponentLink2URL: https://www.digikey.com/product-detail/en/diodes-incorporated/BSS138-7-F/BSS138-FDICT-ND/717843; Price: 0.5; Type: N-Channel; Device Package: TO-236-3, SC-59, SOT-23-3; Drain to Source Voltage (Vdss): 50V
footprint DIODES SOT-23-3
pins: 1 G, 2 D, 3 S

## BSS138AKAR
designator IC?
MOSFET N-CH 60V 0.2A TO-236AB; Manufacturer: NXP USA Inc.; Rds On (Max) at Id, Vgs: 4.5 Ohm @ 100mA, 10V; Vgs(th) (Max) at Id: 20V; Gate Charge (Qg): 0.51nC @ 4.5V; Input Capacitance (Ciss) at Vds: 47pF @ 30V; Current Continuous Drain: 200mA (Ta); Part Number: BSS138AKAR; PartId: 29595; Supplier 1: Digi-Key; Supplier Part Number 1: 568-10469-1-ND; ComponentLink1Description: Datasheet; ComponentLink1URL: http://www.nxp.com/documents/data_sheet/BSS138AKA.pdf; ComponentLink2Description: Digi-Key Listing; ComponentLink2URL: https://www.digikey.com/product-detail/en/nxp-usa-inc/BSS138AKAR/568-10469-1-ND/4386054; Price: 0.51; Type: N-Channel; Device Package: TO-236-3, SC-59, SOT-23-3; Drain to Source Voltage (Vdss): 60V
footprint NXP SOT-23-3 TO-236AB
pins: 1 G, 2 D, 3 S

## BSS138BK,215
designator IC?
MOSFET N-CH 60V TO-236AB; Manufacturer: NXP USA Inc.; Rds On (Max) at Id, Vgs: 1.6 Ohm @ 350mA, 10V; Vgs(th) (Max) at Id: 20V; Gate Charge (Qg): 0.7nC @ 4.5V; Input Capacitance (Ciss) at Vds: 56pF @ 10V; Current Continuous Drain: 360mA (Ta); Part Number: BSS138BK,215; PartId: 29594; Supplier 1: Digi-Key; Supplier Part Number 1: 568-10307-1-ND; ComponentLink1Description: Datasheet; ComponentLink1URL: http://www.nxp.com/documents/data_sheet/BSS138BK.pdf; ComponentLink2Description: Digi-Key Listing; ComponentLink2URL: https://www.digikey.com/product-detail/en/nxp-usa-inc/BSS138BK,215/568-10307-1-ND/4162470; Price: 0.5; Type: N-Channel; Device Package: TO-236-3, SC-59, SOT-23-3; Drain to Source Voltage (Vdss): 60V
footprint NXP SOT-23-3 TO-236AB
pins: 1 G, 2 D, 3 S

## BSS138BKW,115
designator IC?
MOSFET N-CH 60V SOT323; Manufacturer: NXP Semiconductors; Rds On (Max) at Id, Vgs: 1.6 Ohm @ 320mA, 10V; Vgs(th) (Max) at Id: 1.6V @ 250uA; Gate Charge (Qg): 0.7nC @ 4.5V; Input Capacitance (Ciss) at Vds: 56pF @ 10V; Power - Max: 260mW; Current Continuous Drain: 320mA (Ta); Part Number: BSS138BKW,115; PartId: 8086; Supplier 1: Digi-Key; Supplier Part Number 1: 568-10470-2-ND; ComponentLink1Description: Datasheet; ComponentLink1URL: http://www.nxp.com/documents/data_sheet/BSS138BKW.pdf; ComponentLink2Description: Digi-Key Listing; ComponentLink2URL: http://www.digikey.com/product-detail/en/BSS138BKW,115/568-10470-2-ND/2779824; Price: 0.0614; Type: MOSFET N-Channel, Metal Oxide; Device Package: SC-70, SOT-323; Drain to Source Voltage (Vdss): 60V; Features: Logic Level Gate
footprint NXP SOT-323-3
pins: 1 G, 2 D, 3 S

## BSS138LT1G
designator IC?
MOSFET N-CH 50V 200MA SOT-23; Manufacturer: ON Semiconductor; Rds On (Max) at Id, Vgs: 3.5 Ohm @ 200mA, 5V; Vgs(th) (Max) at Id: 20V; Input Capacitance (Ciss) at Vds: 50pF @ 25V; Current Continuous Drain: 200mA (Ta); Part Number: BSS138LT1G; PartId: 29604; Supplier 1: Digi-Key; Supplier Part Number 1: BSS138LT1GOSCT-ND; ComponentLink1Description: Datasheet; ComponentLink1URL: http://www.onsemi.com/pub_link/Collateral/BSS138LT1-D.PDF; ComponentLink2Description: Digi-Key Listing; ComponentLink2URL: https://www.digikey.com/product-detail/en/on-semiconductor/BSS138LT1G/BSS138LT1GOSCT-ND/917858; Price: 0.35; Type: N-Channel; Device Package: TO-236-3, SC-59, SOT-23-3; Drain to Source Voltage (Vdss): 50V
footprint ON SEMI SOT-23-3
pins: 1 G, 2 D, 3 S

## BSS138LT3G
designator IC?
MOSFET N-CH 50V 200MA SOT-23; Manufacturer: ON Semiconductor; Rds On (Max) at Id, Vgs: 3.5 Ohm @ 200mA, 5V; Vgs(th) (Max) at Id: 20V; Input Capacitance (Ciss) at Vds: 50pF @ 25V; Current Continuous Drain: 200mA (Ta); Part Number: BSS138LT3G; PartId: 29603; Supplier 1: Digi-Key; Supplier Part Number 1: BSS138LT3GOSCT-ND; ComponentLink1Description: Datasheet; ComponentLink1URL: http://www.onsemi.com/pub_link/Collateral/BSS138LT1-D.PDF; ComponentLink2Description: Digi-Key Listing; ComponentLink2URL: https://www.digikey.com/product-detail/en/on-semiconductor/BSS138LT3G/BSS138LT3GOSCT-ND/2120566; Price: 0.35; Type: N-Channel; Device Package: TO-236-3, SC-59, SOT-23-3; Drain to Source Voltage (Vdss): 50V
footprint ON SEMI SOT-23-3
pins: 1 G, 2 D, 3 S

## BSS138NH6327XTSA2
designator IC?
MOSFET N-CH 60V 230MA SOT-23; Manufacturer: Infineon Technologies; Rds On (Max) at Id, Vgs: 3.5 Ohm @ 230mA, 10V; Vgs(th) (Max) at Id: 20V; Gate Charge (Qg): 1.4nC @ 10V; Input Capacitance (Ciss) at Vds: 41pF @ 25V; Current Continuous Drain: 230mA (Ta); Part Number: BSS138NH6327XTSA2; PartId: 29472; Supplier 1: Digi-Key; Supplier Part Number 1: BSS138NH6327XTSA2CT-ND; ComponentLink1Description: Datasheet; ComponentLink1URL: http://www.infineon.com/dgdl/Infineon-BSS138N-DS-v02_86-en.pdf?fileId=db3a304330f68606013104d944d53efb; ComponentLink2Description: Digi-Key Listing; ComponentLink2URL: https://www.digikey.com/product-detail/en/infineon-technologies/BSS138NH6327XTSA2/BSS138NH6327XTSA2CT-ND/5413728; Price: 0.34; Type: N-Channel; Device Package: TO-236-3, SC-59, SOT-23-3; Drain to Source Voltage (Vdss): 60V
footprint INFINEON SOT-23-3
pins: 1 G, 2 D, 3 S

## BSS138NH6433XTMA1
designator IC?
MOSFET N-CH 60V 230MA SOT23; Manufacturer: Infineon Technologies; Rds On (Max) at Id, Vgs: 3.5 Ohm @ 230mA, 10V; Vgs(th) (Max) at Id: 20V; Gate Charge (Qg): 1.4nC @ 10V; Input Capacitance (Ciss) at Vds: 41pF @ 25V; Current Continuous Drain: 230mA (Ta); Part Number: BSS138NH6433XTMA1; PartId: 29490; Supplier 1: Digi-Key; Supplier Part Number 1: BSS138NH6433XTMA1CT-ND; ComponentLink1Description: Datasheet; ComponentLink1URL: http://www.infineon.com/dgdl/Infineon-BSS138N-DS-v02_86-en.pdf?fileId=db3a304330f68606013104d944d53efb; ComponentLink2Description: Digi-Key Listing; ComponentLink2URL: https://www.digikey.com/product-detail/en/infineon-technologies/BSS138NH6433XTMA1/BSS138NH6433XTMA1CT-ND/6134222; Price: 0.34; Type: N-Channel; Device Package: TO-236-3, SC-59, SOT-23-3; Drain to Source Voltage (Vdss): 60V
footprint INFINEON SOT-23-3
pins: 1 G, 2 D, 3 S

## BSS138P,215
designator IC?
MOSFET N-CH 60V 360MA TO-236AB; Manufacturer: NXP USA Inc.; Rds On (Max) at Id, Vgs: 1.6 Ohm @ 300mA, 10V; Vgs(th) (Max) at Id: 20V; Gate Charge (Qg): 0.8nC @ 4.5V; Input Capacitance (Ciss) at Vds: 50pF @ 10V; Current Continuous Drain: 360mA (Ta); Part Number: BSS138P,215; PartId: 29590; Supplier 1: Digi-Key; Supplier Part Number 1: 568-10308-1-ND; ComponentLink1Description: Datasheet; ComponentLink1URL: http://www.nxp.com/documents/data_sheet/BSS138P.pdf; ComponentLink2Description: Digi-Key Listing; ComponentLink2URL: https://www.digikey.com/product-detail/en/nxp-usa-inc/BSS138P,215/568-10308-1-ND/4162471; Price: 0.35; Type: N-Channel; Device Package: TO-236-3, SC-59, SOT-23-3; Drain to Source Voltage (Vdss): 60V
footprint NXP SOT-23-3 TO-236AB
pins: 1 G, 2 D, 3 S

## BSS138PW,115
designator IC?
MOSFET N-CH 60V 320MA SOT323; Manufacturer: NXP Semiconductors; Rds On (Max) at Id, Vgs: 1.6 Ohm @ 300mA, 10V; Vgs(th) (Max) at Id: 1.5V @ 250uA; Gate Charge (Qg): 0.8nC @ 4.5V; Input Capacitance (Ciss) at Vds: 50pF @ 10V; Power - Max: 260mW; Current Continuous Drain: 320mA (Ta); Part Number: BSS138PW,115; PartId: 8085; Supplier 1: Digi-Key; Supplier Part Number 1: 568-10309-2-ND; ComponentLink1Description: Datasheet; ComponentLink1URL: http://www.nxp.com/documents/data_sheet/BSS138PW.pdf; ComponentLink2Description: Digi-Key Listing; ComponentLink2URL: http://www.digikey.com/product-detail/en/BSS138PW,115/568-10309-2-ND/2779826; Price: 0.0563; Type: MOSFET N-Channel, Metal Oxide; Device Package: SC-70, SOT-323; Drain to Source Voltage (Vdss): 60V; Features: Logic Level Gate
footprint NXP SOT-323-3
pins: 1 G, 2 D, 3 S

## BSS138TA
designator IC?
MOSFET N-CH 50V 200MA SOT23-3; Manufacturer: Diodes Incorporated; Rds On (Max) at Id, Vgs: 3.5 Ohm @ 220mA, 10V; Vgs(th) (Max) at Id: 20V; Input Capacitance (Ciss) at Vds: 50pF @ 10V; Current Continuous Drain: 200mA (Ta); Part Number: BSS138TA; PartId: 29501; Supplier 1: Digi-Key; Supplier Part Number 1: BSS138ZXCT-ND; ComponentLink1Description: Datasheet; ComponentLink1URL: http://www.diodes.com/_files/datasheets/ds30144.pdf; ComponentLink2Description: Digi-Key Listing; ComponentLink2URL: https://www.digikey.com/product-detail/en/diodes-incorporated/BSS138TA/BSS138ZXCT-ND/92633; Price: 0.67; Type: N-Channel; Device Package: TO-236-3, SC-59, SOT-23-3; Drain to Source Voltage (Vdss): 50V
footprint DIODES SOT-23-3
pins: 1 G, 2 D, 3 S

## BSS138WH6327XTSA1
designator IC?
MOSFET N-CH 60V 280MA SOT-323; Manufacturer: Infineon Technologies; Rds On (Max) at Id, Vgs: 3.5 Ohm @ 200mA, 10V; Vgs(th) (Max) at Id: 1.4V @ 26uA; Gate Charge (Qg): 1.5nC @ 10V; Input Capacitance (Ciss) at Vds: 43pF @ 25V; Power - Max: 500mW; Current Continuous Drain: 280mA (Ta); Part Number: BSS138WH6327XTSA1; PartId: 8084; Supplier 1: Digi-Key; Supplier Part Number 1: BSS138WH6327XTSA1TR-ND; ComponentLink1Description: Datasheet; ComponentLink1URL: http://www.infineon.com/dgdl/Infineon-BSS138W-DS-v02_43-en.pdf?fileId=db3a304335113a6301351e62fcb4131f; ComponentLink2Description: Digi-Key Listing; ComponentLink2URL: http://www.digikey.com/product-detail/en/BSS138WH6327XTSA1/BSS138WH6327XTSA1TR-ND/5410120; Price: 0.0483; Type: MOSFET N-Channel, Metal Oxide; Device Package: SC-70, SOT-323; Drain to Source Voltage (Vdss): 60V; Features: Logic Level Gate
footprint INFINEON SOT-323-3
pins: 1 G, 2 D, 3 S

## BSS139 H6327
designator IC?
MOSFET N-CH 250V 100MA SOT23; Manufacturer: Infineon Technologies; Rds On (Max) at Id, Vgs: 14 Ohm @ 100uA, 10V; Vgs(th) (Max) at Id: 20V; Gate Charge (Qg): 3.5nC @ 5V; Input Capacitance (Ciss) at Vds: 76pF @ 25V; Current Continuous Drain: 100mA (Ta); Part Number: BSS139 H6327; PartId: 29464; Supplier 1: Digi-Key; Supplier Part Number 1: BSS139 H6327CT-ND; ComponentLink1Description: Datasheet; ComponentLink1URL: http://www.infineon.com/dgdl/Infineon-BSS139-DS-v01_08-en.pdf?fileId=db3a304333b8a7ca0133eed3136c61f2; ComponentLink2Description: Digi-Key Listing; ComponentLink2URL: https://www.digikey.com/product-detail/en/infineon-technologies/BSS139-H6327/BSS139-H6327CT-ND/3196641; Price: 0.7; Type: N-Channel; Device Package: TO-236-3, SC-59, SOT-23-3; Drain to Source Voltage (Vdss): 250V; Features: Depletion Mode
footprint INFINEON SOT-23-3
pins: 1 G, 2 D, 3 S

## BSS159N H6906
designator IC?
MOSFET N-CH 60V 230MA SOT23; Manufacturer: Infineon Technologies; Rds On (Max) at Id, Vgs: 3.5 Ohm @ 160mA, 10V; Vgs(th) (Max) at Id: 20V; Gate Charge (Qg): 2.9nC @ 5V; Input Capacitance (Ciss) at Vds: 44pF @ 25V; Current Continuous Drain: 230mA (Ta); Part Number: BSS159N H6906; PartId: 29469; Supplier 1: Digi-Key; Supplier Part Number 1: BSS159N H6906CT-ND; ComponentLink1Description: Datasheet; ComponentLink1URL: http://www.infineon.com/dgdl/Infineon-BSS159N-DS-v02_02-en.pdf?fileId=db3a304330f68606013108d8b2230036; ComponentLink2Description: Digi-Key Listing; ComponentLink2URL: https://www.digikey.com/product-detail/en/infineon-technologies/BSS159N-H6906/BSS159N-H6906CT-ND/3196642; Price: 0.92; Type: N-Channel; Device Package: TO-236-3, SC-59, SOT-23-3; Drain to Source Voltage (Vdss): 60V; Features: Depletion Mode
footprint INFINEON SOT-23-3
pins: 1 G, 2 D, 3 S

## BSS159NH6327XTSA2
designator IC?
MOSFET N-CH 60V 230MA SOT-23; Manufacturer: Infineon Technologies; Rds On (Max) at Id, Vgs: 3.5 Ohm @ 160mA, 10V; Vgs(th) (Max) at Id: 20V; Gate Charge (Qg): 1.4nC @ 5V; Input Capacitance (Ciss) at Vds: 39pF @ 25V; Current Continuous Drain: 230mA (Ta); Part Number: BSS159NH6327XTSA2; PartId: 29480; Supplier 1: Digi-Key; Supplier Part Number 1: BSS159NH6327XTSA2CT-ND; ComponentLink1Description: Datasheet; ComponentLink1URL: http://www.infineon.com/dgdl/Infineon-BSS159N-DS-v02_02-en.pdf?fileId=db3a304330f68606013108d8b2230036; ComponentLink2Description: Digi-Key Listing; ComponentLink2URL: https://www.digikey.com/product-detail/en/infineon-technologies/BSS159NH6327XTSA2/BSS159NH6327XTSA2CT-ND/5413729; Price: 0.6; Type: N-Channel; Device Package: TO-236-3, SC-59, SOT-23-3; Drain to Source Voltage (Vdss): 60V; Features: Depletion Mode
footprint INFINEON SOT-23-3
pins: 1 G, 2 D, 3 S

## BSS169H6327XTSA1
designator IC?
MOSFET N-CH 100V 170MA SOT23; Manufacturer: Infineon Technologies; Rds On (Max) at Id, Vgs: 6 Ohm @ 170mA, 10V; Vgs(th) (Max) at Id: 20V; Gate Charge (Qg): 2.8nC @ 7V; Input Capacitance (Ciss) at Vds: 68pF @ 25V; Current Continuous Drain: 170mA (Ta); Part Number: BSS169H6327XTSA1; PartId: 29481; Supplier 1: Digi-Key; Supplier Part Number 1: BSS169H6327XTSA1CT-ND; ComponentLink1Description: Datasheet; ComponentLink1URL: http://www.infineon.com/dgdl/Infineon-BSS169-DS-v01_08-en.pdf?fileId=db3a304330f68606013108f39406004c; ComponentLink2Description: Digi-Key Listing; ComponentLink2URL: https://www.digikey.com/product-detail/en/infineon-technologies/BSS169H6327XTSA1/BSS169H6327XTSA1CT-ND/5410033; Price: 0.62; Type: N-Channel; Device Package: TO-236-3, SC-59, SOT-23-3; Drain to Source Voltage (Vdss): 100V; Features: Depletion Mode
footprint INFINEON SOT-23-3
pins: 1 G, 2 D, 3 S

## BSS205N H6327
designator IC?
MOSFET N-CH 20V 2.5A SOT23; Manufacturer: Infineon Technologies; Rds On (Max) at Id, Vgs: 50 mOhm @ 2.5A, 4.5V; Vgs(th) (Max) at Id: 12V; Gate Charge (Qg): 3.2nC @ 4.5V; Input Capacitance (Ciss) at Vds: 419pF @ 10V; Current Continuous Drain: 2.5A (Ta); Part Number: BSS205N H6327; PartId: 29478; Supplier 1: Digi-Key; Supplier Part Number 1: BSS205N H6327CT-ND; ComponentLink1Description: Datasheet; ComponentLink1URL: http://www.infineon.com/dgdl/BSS205N_Rev2.4.pdf?folderId=db3a3043156fd573011622e10b5c1f67&fileId=db3a304330f686060131091244950062; ComponentLink2Description: Digi-Key Listing; ComponentLink2URL: https://www.digikey.com/product-detail/en/infineon-technologies/BSS205N-H6327/BSS205N-H6327CT-ND/3196645; Price: 0.57; Type: N-Channel; Device Package: TO-236-3, SC-59, SOT-23-3; Drain to Source Voltage (Vdss): 20V
footprint INFINEON SOT-23-3
pins: 1 G, 2 D, 3 S

## BSS306N H6327
designator IC?
MOSFET N-CH 30V 2.3A SOT23; Manufacturer: Infineon Technologies; Rds On (Max) at Id, Vgs: 57 mOhm @ 2.3A, 10V; Vgs(th) (Max) at Id: 2V @ 11uA; Gate Charge (Qg): 1.5nC @ 5V; Input Capacitance (Ciss) at Vds: 275pF @ 15V; Power - Max: 500mW; Current Continuous Drain: 2.3A (Ta); Part Number: BSS306N H6327; PartId: 8076; Supplier 1: Digi-Key; Supplier Part Number 1: BSS306N H6327TR-ND; ComponentLink1Description: Datasheet; ComponentLink1URL: http://www.infineon.com/dgdl/BSS306N_Rev2.3.pdf?folderId=db3a3043156fd573011622e10b5c1f67&fileId=db3a304330f686060130ff4c1f867ef5; ComponentLink2Description: Digi-Key Listing; ComponentLink2URL: http://www.digikey.com/product-detail/en/BSS306N%20H6327/BSS306N%20H6327TR-ND/2783465; Price: 0.0838; Type: MOSFET N-Channel, Metal Oxide; Device Package: TO-236-3, SC-59, SOT-23-3; Drain to Source Voltage (Vdss): 30V; Features: Logic Level Gate, 4.5V Drive
footprint INFINEON SOT-23-3
pins: 1 G, 2 D, 3 S

## BSS316N H6327
designator IC?
MOSFET N-CH 30V 1.4A SOT23; Manufacturer: Infineon Technologies; Rds On (Max) at Id, Vgs: 160 mOhm @ 1.4A, 10V; Vgs(th) (Max) at Id: 20V; Gate Charge (Qg): 0.6nC @ 5V; Input Capacitance (Ciss) at Vds: 94pF @ 15V; Current Continuous Drain: 1.4A (Ta); Part Number: BSS316N H6327; PartId: 29475; Supplier 1: Digi-Key; Supplier Part Number 1: BSS316N H6327CT-ND; ComponentLink1Description: Datasheet; ComponentLink1URL: http://www.infineon.com/dgdl/BSS316N_Rev2.3.pdf?folderId=db3a3043156fd573011622e10b5c1f67&fileId=db3a304330f686060130ff7ee4b07f16; ComponentLink2Description: Digi-Key Listing; ComponentLink2URL: https://www.digikey.com/product-detail/en/infineon-technologies/BSS316N-H6327/BSS316N-H6327CT-ND/3196652; Price: 0.43; Type: N-Channel; Device Package: TO-236-3, SC-59, SOT-23-3; Drain to Source Voltage (Vdss): 30V
footprint INFINEON SOT-23-3
pins: 1 G, 2 D, 3 S

## BSS670S2L H6327
designator IC?
MOSFET N-CH 55V 540MA SOT23; Manufacturer: Infineon Technologies; Rds On (Max) at Id, Vgs: 650 mOhm @ 270mA, 10V; Vgs(th) (Max) at Id: 20V; Gate Charge (Qg): 2.26nC @ 10V; Input Capacitance (Ciss) at Vds: 75pF @ 25V; Current Continuous Drain: 540mA (Ta); Part Number: BSS670S2L H6327; PartId: 29474; Supplier 1: Digi-Key; Supplier Part Number 1: BSS670S2L H6327CT-ND; ComponentLink1Description: Datasheet; ComponentLink1URL: http://www.infineon.com/dgdl/BSS670S2L_Rev2.5.pdf?folderId=db3a3043156fd573011622e10b5c1f67&fileId=db3a304330f68606013109e4a7fb0094; ComponentLink2Description: Digi-Key Listing; ComponentLink2URL: https://www.digikey.com/product-detail/en/infineon-technologies/BSS670S2L-H6327/BSS670S2L-H6327CT-ND/3196653; Price: 0.43; Type: N-Channel; Device Package: TO-236-3, SC-59, SOT-23-3; Drain to Source Voltage (Vdss): 55V
footprint INFINEON SOT-23-3
pins: 1 G, 2 D, 3 S

## BSS806N H6327
designator IC?
MOSFET N-CH 20V 2.3A SOT23; Manufacturer: Infineon Technologies; Rds On (Max) at Id, Vgs: 57 mOhm @ 2.3A, 2.5V; Vgs(th) (Max) at Id: 8V; Gate Charge (Qg): 1.7nC @ 2.5V; Input Capacitance (Ciss) at Vds: 529pF @ 10V; Current Continuous Drain: 2.3A (Ta); Part Number: BSS806N H6327; PartId: 29477; Supplier 1: Digi-Key; Supplier Part Number 1: BSS806N H6327CT-ND; ComponentLink1Description: Datasheet; ComponentLink1URL: http://www.infineon.com/dgdl/BSS806N_Rev2.3_.pdf?folderId=db3a3043156fd573011622e10b5c1f67&fileId=db3a304330f686060131185f0553451c; ComponentLink2Description: Digi-Key Listing; ComponentLink2URL: https://www.digikey.com/product-detail/en/infineon-technologies/BSS806N-H6327/BSS806N-H6327CT-ND/3196655; Price: 0.51; Type: N-Channel; Device Package: TO-236-3, SC-59, SOT-23-3; Drain to Source Voltage (Vdss): 20V
footprint INFINEON SOT-23-3
pins: 1 G, 2 D, 3 S

## BSZ12DN20NS3G
designator IC?
MOSFET N-CH 200V 11.3A 8TSDSON; Manufacturer: Infineon Technologies; Rds On (Max) at Id, Vgs: 125 mOhm @ 5.7A, 10V; Vgs(th) (Max) at Id: 4V @ 25uA; Gate Charge (Qg): 8.7nC @ 10V; Input Capacitance (Ciss) at Vds: 680pF @ 100V; Power - Max: 50W; Current Continuous Drain: 11.3A (Tc); Part Number: BSZ12DN20NS3G; PartId: 8120; Supplier 1: Digi-Key; Supplier Part Number 1: BSZ12DN20NS3GTR-ND; ComponentLink1Description: Datasheet; ComponentLink1URL: http://www.infineon.com/dgdl/BSZ12DN20NS3+Rev2.2.pdf?folderId=db3a304325305e6d012596c6ca7b290a&fileId=db3a30432ad629a6012b15920ed91a5a; ComponentLink2Description: Digi-Key Listing; ComponentLink2URL: http://www.digikey.com/product-detail/en/BSZ12DN20NS3G/BSZ12DN20NS3GTR-ND/2527824; Price: 0.5111; Type: MOSFET N-Channel, Metal Oxide; Device Package: 8-PowerTDFN; Drain to Source Voltage (Vdss): 200V; Features: Standard
footprint INFINEON PG-TSDSON-8
pins: 1 S, 2 S, 3 S, 4 G, 5 D, 6 D, 7 D, 8 D

## BSZ018NE2LS
designator IC?
MOSFET N-CH 25V 23A TSDSON-8; Manufacturer: Infineon Technologies; Rds On (Max) at Id, Vgs: 1.8 mOhm @ 30A, 10V; Vgs(th) (Max) at Id: 2V @ 250uA; Gate Charge (Qg): 39nC @ 10V; Input Capacitance (Ciss) at Vds: 2800pF @ 12V; Power - Max: 2.1W; Current Continuous Drain: 23A (Ta), 40A (Tc); Part Number: BSZ018NE2LS; PartId: 8102; Supplier 1: Digi-Key; Supplier Part Number 1: BSZ018NE2LSTR-ND; ComponentLink1Description: Datasheet; ComponentLink1URL: http://www.infineon.com/dgdl/BSZ018NE2LS_Rev+2.1.pdf?folderId=db3a304313b8b5a60113cee8763b02d7&fileId=db3a30432ee77f32012f072b132a57fc; ComponentLink2Description: Digi-Key Listing; ComponentLink2URL: http://www.digikey.com/product-detail/en/BSZ018NE2LS/BSZ018NE2LSTR-ND/2783239; Price: 0.532; Type: MOSFET N-Channel, Metal Oxide; Device Package: 8-PowerTDFN; Drain to Source Voltage (Vdss): 25V; Features: Standard
footprint INFINEON PG-TSDSON-8
pins: 1 S, 2 S, 3 S, 4 G, 5 D, 6 D, 7 D, 8 D

## BSZ018NE2LSI
designator IC?
MOSFET N-CH 25V 22A TSDSON-8; Manufacturer: Infineon Technologies; Rds On (Max) at Id, Vgs: 1.8 mOhm @ 20A, 10V; Vgs(th) (Max) at Id: 2V @ 250uA; Gate Charge (Qg): 36nC @ 10V; Input Capacitance (Ciss) at Vds: 2500pF @ 12V; Power - Max: 69W; Current Continuous Drain: 22A (Ta), 40A (Tc); Part Number: BSZ018NE2LSI; PartId: 8103; Supplier 1: Digi-Key; Supplier Part Number 1: BSZ018NE2LSITR-ND; ComponentLink1Description: Datasheet; ComponentLink1URL: http://www.infineon.com/dgdl/BSZ018NE2LSI_Rev+2.0.pdf?folderId=db3a304313b8b5a60113cee8763b02d7&fileId=db3a30433072cd8f013093cc4a9471d2; ComponentLink2Description: Digi-Key Listing; ComponentLink2URL: http://www.digikey.com/product-detail/en/BSZ018NE2LSI/BSZ018NE2LSITR-ND/2783240; Price: 0.5586; Type: MOSFET N-Channel, Metal Oxide; Device Package: 8-PowerTDFN; Drain to Source Voltage (Vdss): 25V; Features: Standard
footprint INFINEON PG-TSDSON-8
pins: 1 S, 2 S, 3 S, 4 G, 5 D, 6 D, 7 D, 8 D

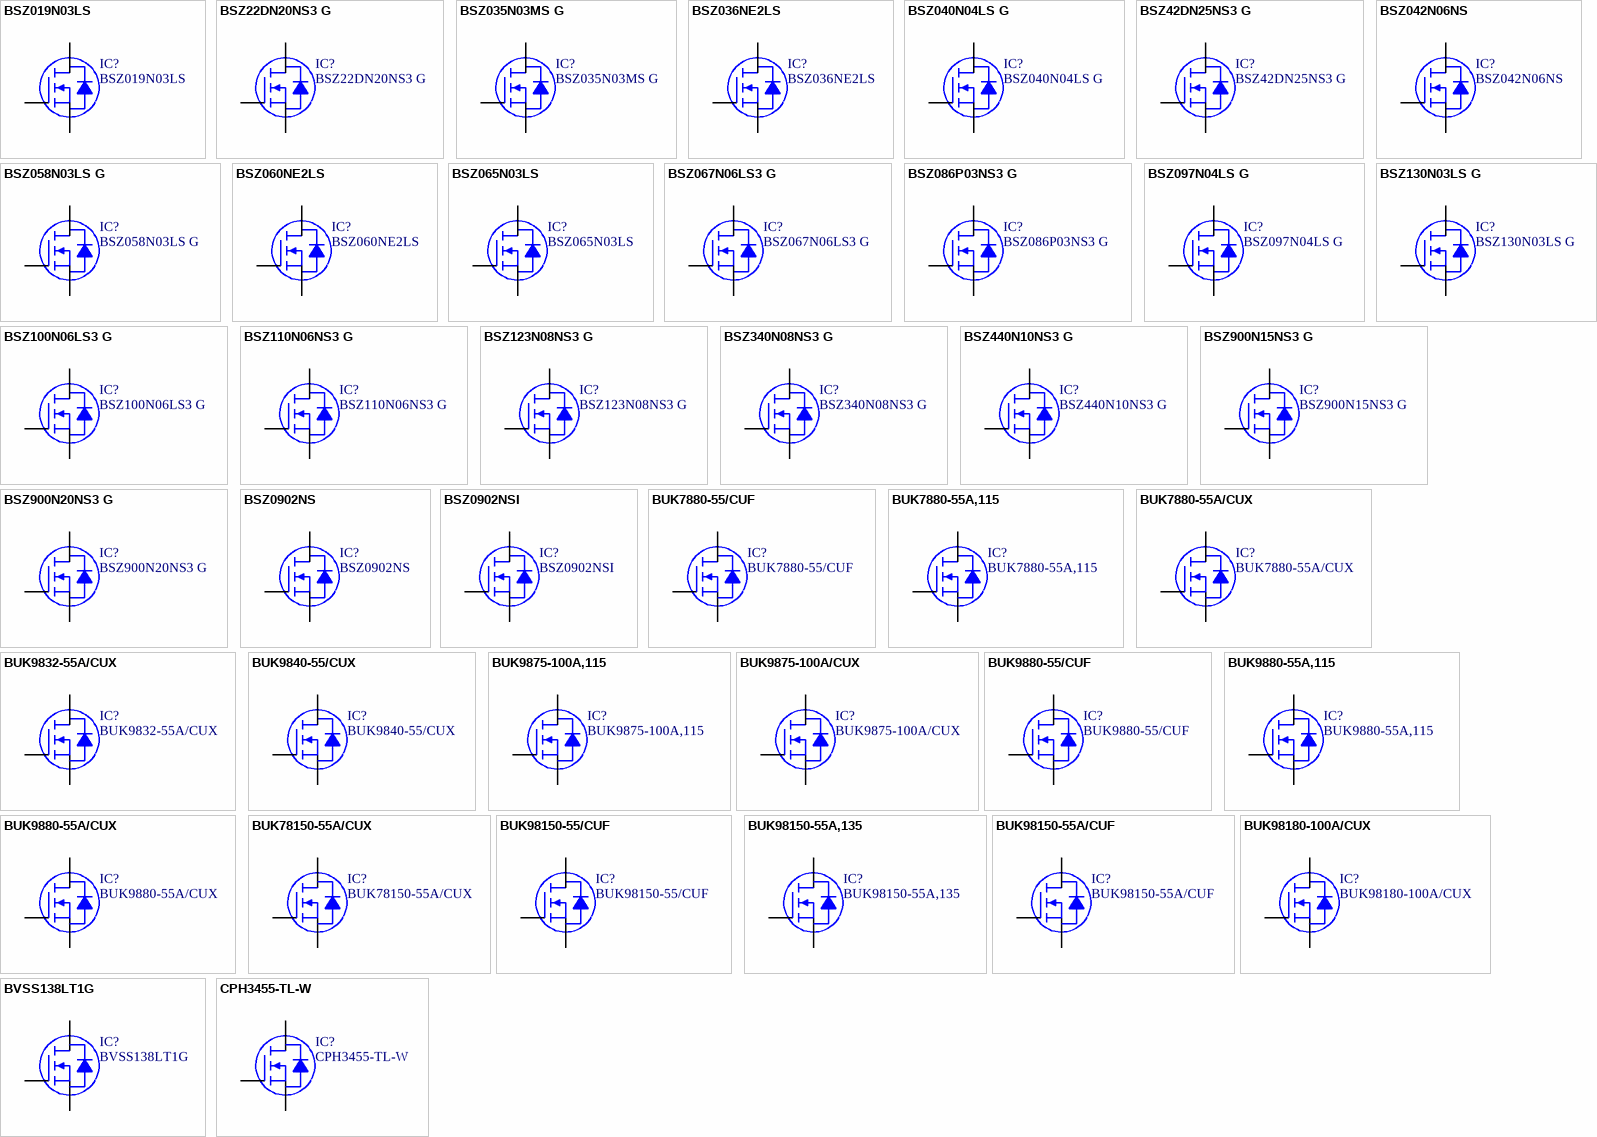
[diagram p4: symbols BSZ019N03LS to CPH3455-TL-W]

## BSZ019N03LS
designator IC?
MOSFET N-CH 30V 22A TSDSON-8; Manufacturer: Infineon Technologies; Rds On (Max) at Id, Vgs: 1.9 mOhm @ 20A, 10V; Vgs(th) (Max) at Id: 2V @ 250uA; Gate Charge (Qg): 44nC @ 10V; Input Capacitance (Ciss) at Vds: 2800pF @ 15V; Power - Max: 2.1W; Current Continuous Drain: 22A (Ta). 40A (Tc); Part Number: BSZ019N03LS; PartId: 8104; Supplier 1: Digi-Key; Supplier Part Number 1: BSZ019N03LSTR-ND; ComponentLink1Description: Datasheet; ComponentLink1URL: http://www.infineon.com/dgdl/BSZ019N03LS_Rev+2.1.pdf?folderId=db3a304326dfb1300126fb3bec803f1a&fileId=db3a304326dfb1300126fb7ddf173f4e; ComponentLink2Description: Digi-Key Listing; ComponentLink2URL: http://www.digikey.com/product-detail/en/BSZ019N03LS/BSZ019N03LSTR-ND/2783241; Price: 0.4788; Type: MOSFET N-Channel, Metal Oxide; Device Package: 8-PowerTDFN; Drain to Source Voltage (Vdss): 30V; Features: Standard
footprint INFINEON PG-TSDSON-8
pins: 1 S, 2 S, 3 S, 4 G, 5 D, 6 D, 7 D, 8 D